# Altium schematic symbol library auxiliary_library.SchLib: 2 symbols
Pins are listed as number, name and electrical type; pins without a type are passive.

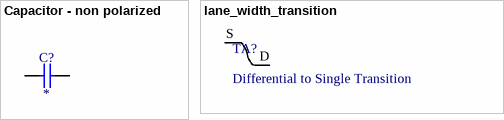
[diagram p0: symbols Capacitor - non polarized to lane_width_transition]

## Capacitor - non polarized
designator C?
Non-polarised capacitor; Value: *
pins: 1, 2

## lane_width_transition
designator TA?, comment Differential to Single Transition
footprint lane_width_transition
pins: D, S